# Altium schematic symbol library 691 328 310 0xx.SchLib: 6 symbols
Pins are listed as number, name and electrical type; pins without a type are passive.

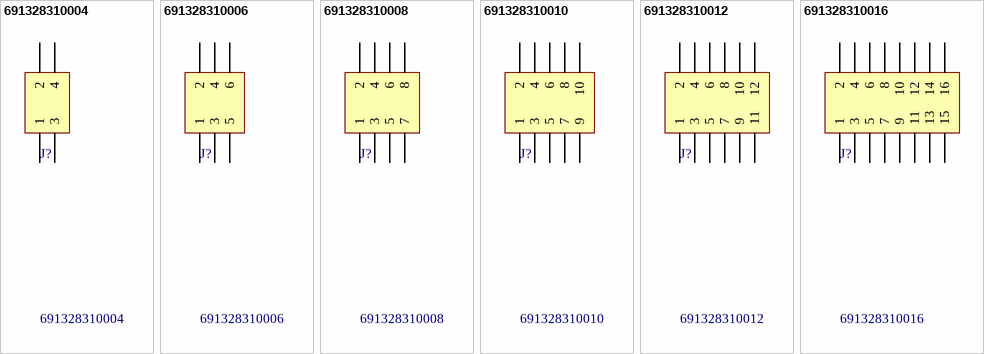
[diagram p0: symbols 691328310004 to 691328310016]

## 691328310004
designator J?
WR-TBL Terminal block - serie 3283 - 3.81 mm; Manufacturer: Würth Elektronik eiSos GmbH; ComponentLink1 Description: Manufacturer; ComponentLink2 Description: Datasheet; NoPins: 04; Created Date: 27 December 2013; partNo: 691328310004; ComponentLink1URL: http://www.we-online.com; ComponentLink2URL: http://katalog.we-online.de/em/datasheet/6913283100xx.pdf; Created by: Karrer Zheng
footprint 691328310004 (3,81mm - PCB - Dual row - Horizontal - Flanges - 04p)
pins: 1, 2, 3, 4

## 691328310006
designator J?
WR-TBL Terminal block - serie 3283 - 3.81 mm; Manufacturer: Würth Elektronik eiSos GmbH; ComponentLink1 Description: Manufacturer; ComponentLink2 Description: Datasheet; NoPins: 06; Created Date: 27 December 2013; partNo: 691328310006; ComponentLink1URL: http://www.we-online.com; ComponentLink2URL: http://katalog.we-online.de/em/datasheet/6913283100xx.pdf; Created by: Karrer Zheng
footprint 691328310006 (3,81mm - PCB - Dual row - Horizontal - Flanges - 06p)
pins: 1, 2, 3, 4, 5, 6

## 691328310008
designator J?
WR-TBL Terminal block - serie 3283 - 3.81 mm; Manufacturer: Würth Elektronik eiSos GmbH; ComponentLink1 Description: Manufacturer; ComponentLink2 Description: Datasheet; NoPins: 08; Created Date: 27 December 2013; partNo: 691328310008; ComponentLink1URL: http://www.we-online.com; ComponentLink2URL: http://katalog.we-online.de/em/datasheet/6913283100xx.pdf; Created by: Karrer Zheng
footprint 691328310008 (3,81mm - PCB - Dual row - Horizontal - Flanges - 08p)
pins: 1, 2, 3, 4, 5, 6, 7, 8

## 691328310010
designator J?
WR-TBL Terminal block - serie 3283 - 3.81 mm; Manufacturer: Würth Elektronik eiSos GmbH; ComponentLink1 Description: Manufacturer; ComponentLink2 Description: Datasheet; NoPins: 10; Created Date: 27 December 2013; partNo: 691328310010; ComponentLink1URL: http://www.we-online.com; ComponentLink2URL: http://katalog.we-online.de/em/datasheet/6913283100xx.pdf; Created by: Karrer Zheng
footprint 691328310010 (3,81mm - PCB - Dual row - Horizontal - Flanges - 10p)
pins: 1, 2, 3, 4, 5, 6, 7, 8, 9, 10

## 691328310012
designator J?
WR-TBL Terminal block - serie 3283 - 3.81 mm; Manufacturer: Würth Elektronik eiSos GmbH; ComponentLink1 Description: Manufacturer; ComponentLink2 Description: Datasheet; NoPins: 12; Created Date: 27 December 2013; partNo: 691328310012; ComponentLink1URL: http://www.we-online.com; ComponentLink2URL: http://katalog.we-online.de/em/datasheet/6913283100xx.pdf; Created by: Karrer Zheng
footprint 691328310012 (3,81mm - PCB - Dual row - Horizontal - Flanges - 12p)
pins: 1, 2, 3, 4, 5, 6, 7, 8, 9, 10, 11, 12

## 691328310016
designator J?
WR-TBL Terminal block - serie 3283 - 3.81 mm; Manufacturer: Würth Elektronik eiSos GmbH; ComponentLink1 Description: Manufacturer; ComponentLink2 Description: Datasheet; NoPins: 16; Created Date: 27 December 2013; partNo: 691328310016; ComponentLink1URL: http://www.we-online.com; ComponentLink2URL: http://katalog.we-online.de/em/datasheet/6913283100xx.pdf; Created by: Karrer Zheng
footprint 691328310016 (3,81mm - PCB - Dual row - Horizontal - Flanges - 16p)
pins: 1, 2, 3, 4, 5, 6, 7, 8, 9, 10, 11, 12, 13, 14, 15, 16